# Altium footprint library 78931812515.PcbLib: 1 footprints
Each footprint in its own frame and in the unit in brackets; x right, y up, seen from the top. Pads: shape width x height; smd on the part's side, far side on the other; paste and mask are expansions set on the pad; w line width, h text height; cw(c..) or ccw(c..) is an arc to the next point about the centre after c.
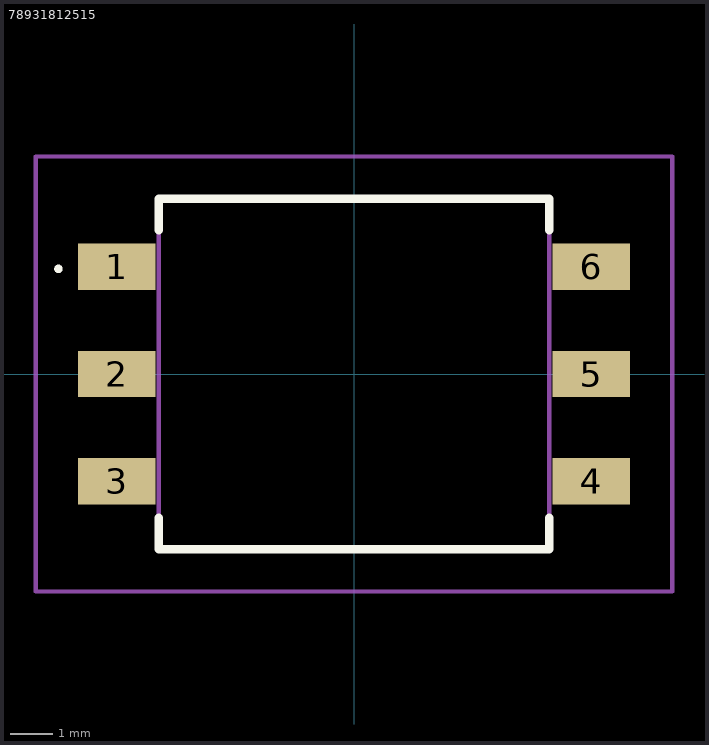
[diagram p0: the footprint, top view; thin cyan lines are the x and y axes]

## 78931812515 [mm]
pads (6):
  rect 1.83x1.09 smd: 1(-5.62,2.54) 2(-5.62,0) 3(-5.62,-2.54) 4(5.62,-2.54) 5(5.62,0) 6(5.62,2.54)
Top Overlay:
  lines w0.1: -7,2.44 cw(c-7,2.49) -7,2.54 ; -7,2.44 -7,2.44 ; -7,2.44 ccw(c-7,2.49) -7,2.54 ; -7,2.54 -7,2.54
  lines w0.2: -4.625,-3.4 -4.625,-4.15 4.625,-4.15 4.625,-3.4 ; -4.625,3.4 -4.625,4.15 4.625,4.15 4.625,3.4
Mechanical 15:
  lines w0.1: -4.625,-4.15 4.625,-4.15 4.625,4.15 -4.625,4.15 -4.625,-4.15
Mechanical 20:
  lines w0.1: -7.535,-5.15 7.535,-5.15 7.535,5.15 -7.535,5.15 -7.535,-5.15